# EAGLE library part 44520-0003 (library con-molex)
STACKED MODULAR JACK CATEGORY 5 Source: http://www.molex.com/pdm_docs/sd/445200006_sd.pdf
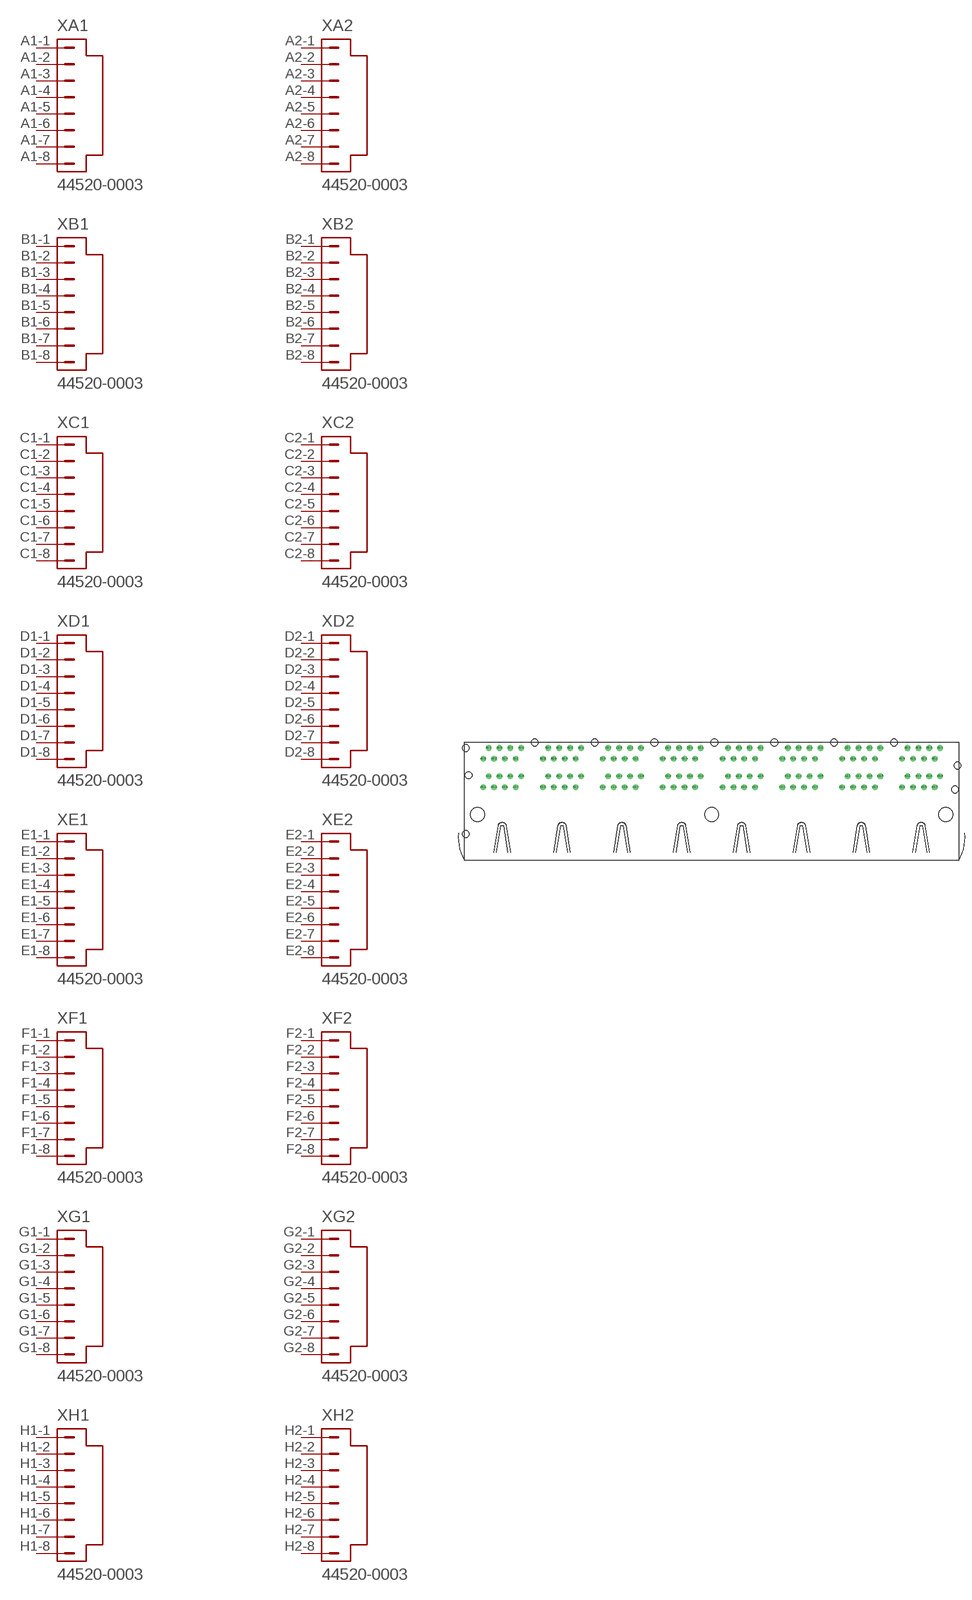
[diagram p163: symbol with the pads of 44520-0003; footprint 44520-0003]

Designator prefix X; gates A1=CON-1X8 A2=CON-1X8 B1=CON-1X8 B2=CON-1X8 C1=CON-1X8 C2=CON-1X8 D1=CON-1X8 D2=CON-1X8 E1=CON-1X8 E2=CON-1X8 F1=CON-1X8 F2=CON-1X8 G1=CON-1X8 G2=CON-1X8 H1=CON-1X8 H2=CON-1X8

## 44520-0003 (MF: MOLEX; MPN: 44520-0003; OC_FARNELL: unknown; OC_NEWARK: 92M2841)  [44520-0003]
A1-1  A1:1  pas
A1-2  A1:2  pas
A1-3  A1:3  pas
A1-4  A1:4  pas
A1-5  A1:5  pas
A1-6  A1:6  pas
A1-7  A1:7  pas
A1-8  A1:8  pas
A2-1  A2:1  pas
A2-2  A2:2  pas
A2-3  A2:3  pas
A2-4  A2:4  pas
A2-5  A2:5  pas
A2-6  A2:6  pas
A2-7  A2:7  pas
A2-8  A2:8  pas
B1-1  B1:1  pas
B1-2  B1:2  pas
B1-3  B1:3  pas
B1-4  B1:4  pas
B1-5  B1:5  pas
B1-6  B1:6  pas
B1-7  B1:7  pas
B1-8  B1:8  pas
B2-1  B2:1  pas
B2-2  B2:2  pas
B2-3  B2:3  pas
B2-4  B2:4  pas
B2-5  B2:5  pas
B2-6  B2:6  pas
B2-7  B2:7  pas
B2-8  B2:8  pas
C1-1  C1:1  pas
C1-2  C1:2  pas
C1-3  C1:3  pas
C1-4  C1:4  pas
C1-5  C1:5  pas
C1-6  C1:6  pas
C1-7  C1:7  pas
C1-8  C1:8  pas
C2-1  C2:1  pas
C2-2  C2:2  pas
C2-3  C2:3  pas
C2-4  C2:4  pas
C2-5  C2:5  pas
C2-6  C2:6  pas
C2-7  C2:7  pas
C2-8  C2:8  pas
D1-1  D1:1  pas
D1-2  D1:2  pas
D1-3  D1:3  pas
D1-4  D1:4  pas
D1-5  D1:5  pas
D1-6  D1:6  pas
D1-7  D1:7  pas
D1-8  D1:8  pas
D2-1  D2:1  pas
D2-2  D2:2  pas
D2-3  D2:3  pas
D2-4  D2:4  pas
D2-5  D2:5  pas
D2-6  D2:6  pas
D2-7  D2:7  pas
D2-8  D2:8  pas
E1-1  E1:1  pas
E1-2  E1:2  pas
E1-3  E1:3  pas
E1-4  E1:4  pas
E1-5  E1:5  pas
E1-6  E1:6  pas
E1-7  E1:7  pas
E1-8  E1:8  pas
E2-1  E2:1  pas
E2-2  E2:2  pas
E2-3  E2:3  pas
E2-4  E2:4  pas
E2-5  E2:5  pas
E2-6  E2:6  pas
E2-7  E2:7  pas
E2-8  E2:8  pas
F1-1  F1:1  pas
F1-2  F1:2  pas
F1-3  F1:3  pas
F1-4  F1:4  pas
F1-5  F1:5  pas
F1-6  F1:6  pas
F1-7  F1:7  pas
F1-8  F1:8  pas
F2-1  F2:1  pas
F2-2  F2:2  pas
F2-3  F2:3  pas
F2-4  F2:4  pas
F2-5  F2:5  pas
F2-6  F2:6  pas
F2-7  F2:7  pas
F2-8  F2:8  pas
G1-1  G1:1  pas
G1-2  G1:2  pas
G1-3  G1:3  pas
G1-4  G1:4  pas
G1-5  G1:5  pas
G1-6  G1:6  pas
G1-7  G1:7  pas
G1-8  G1:8  pas
G2-1  G2:1  pas
G2-2  G2:2  pas
G2-3  G2:3  pas
G2-4  G2:4  pas
G2-5  G2:5  pas
G2-6  G2:6  pas
G2-7  G2:7  pas
G2-8  G2:8  pas
H1-1  H1:1  pas
H1-2  H1:2  pas
H1-3  H1:3  pas
H1-4  H1:4  pas
H1-5  H1:5  pas
H1-6  H1:6  pas
H1-7  H1:7  pas
H1-8  H1:8  pas
H2-1  H2:1  pas
H2-2  H2:2  pas
H2-3  H2:3  pas
H2-4  H2:4  pas
H2-5  H2:5  pas
H2-6  H2:6  pas
H2-7  H2:7  pas
H2-8  H2:8  pas

## Footprint 44520-0003 (pad centres in mm)
STACKED MODULAR JACK CATEGORY 5 Source: http://www.molex.com/pdm_docs/sd/445200006_sd.pdf
drill 0.8: A1-1 -53.34,6.35; A1-2 -52.07,8.89; A1-3 -50.8,6.35; A1-4 -49.53,8.89; A1-5 -48.26,6.35; A1-6 -46.99,8.89; A1-7 -45.72,6.35; A1-8 -44.45,8.89; A2-1 -44.45,15.494; A2-2 -45.72,12.954; A2-3 -46.99,15.494; A2-4 -48.26,12.954; A2-5 -49.53,15.494; A2-6 -50.8,12.954; A2-7 -52.07,15.494; A2-8 -53.34,12.954; B1-1 -39.37,6.35; B1-2 -38.1,8.89; B1-3 -36.83,6.35; B1-4 -35.56,8.89; B1-5 -34.29,6.35; B1-6 -33.02,8.89; B1-7 -31.75,6.35; B1-8 -30.48,8.89; B2-1 -30.48,15.494; B2-2 -31.75,12.954; B2-3 -33.02,15.494; B2-4 -34.29,12.954; B2-5 -35.56,15.494; B2-6 -36.83,12.954; B2-7 -38.1,15.494; B2-8 -39.37,12.954; C1-1 -25.4,6.35; C1-2 -24.13,8.89; C1-3 -22.86,6.35; C1-4 -21.59,8.89; C1-5 -20.32,6.35; C1-6 -19.05,8.89; C1-7 -17.78,6.35; C1-8 -16.51,8.89; C2-1 -16.51,15.494; C2-2 -17.78,12.954; C2-3 -19.05,15.494; C2-4 -20.32,12.954; C2-5 -21.59,15.494; C2-6 -22.86,12.954; C2-7 -24.13,15.494; C2-8 -25.4,12.954; D1-1 -11.43,6.35; D1-2 -10.16,8.89; D1-3 -8.89,6.35; D1-4 -7.62,8.89; D1-5 -6.35,6.35; D1-6 -5.08,8.89; D1-7 -3.81,6.35; D1-8 -2.54,8.89; D2-1 -2.54,15.494; D2-2 -3.81,12.954; D2-3 -5.08,15.494; D2-4 -6.35,12.954; D2-5 -7.62,15.494; D2-6 -8.89,12.954; D2-7 -10.16,15.494; D2-8 -11.43,12.954; E1-1 2.54,6.35; E1-2 3.81,8.89; E1-3 5.08,6.35; E1-4 6.35,8.89; E1-5 7.62,6.35; E1-6 8.89,8.89; E1-7 10.16,6.35; E1-8 11.43,8.89; E2-1 11.43,15.494; E2-2 10.16,12.954; E2-3 8.89,15.494; E2-4 7.62,12.954; E2-5 6.35,15.494; E2-6 5.08,12.954; E2-7 3.81,15.494; E2-8 2.54,12.954; F1-1 16.51,6.35; F1-2 17.78,8.89; F1-3 19.05,6.35; F1-4 20.32,8.89; F1-5 21.59,6.35; F1-6 22.86,8.89; F1-7 24.13,6.35; F1-8 25.4,8.89; F2-1 24.13,12.954; F2-2 25.4,15.494; F2-3 22.86,15.494; F2-4 21.59,12.954; F2-5 20.32,15.494; F2-6 19.05,12.954; F2-7 17.78,15.494; F2-8 16.51,12.954; G1-1 30.48,6.35; G1-2 31.75,8.89; G1-3 33.02,6.35; G1-4 34.29,8.89; G1-5 35.56,6.35; G1-6 36.83,8.89; G1-7 38.1,6.35; G1-8 39.37,8.89; G2-1 39.37,15.494; G2-2 38.1,12.954; G2-3 36.83,15.494; G2-4 35.56,12.954; G2-5 34.29,15.494; G2-6 33.02,12.954; G2-7 31.75,15.494; G2-8 30.48,12.954; H1-1 44.45,6.35; H1-2 45.72,8.89; H1-3 46.99,6.35; H1-4 48.26,8.89; H1-5 49.53,6.35; H1-6 50.8,8.89; H1-7 52.07,6.35; H1-8 53.34,8.89; H2-1 53.34,15.494; H2-2 52.07,12.954; H2-3 50.8,15.494; H2-4 49.53,12.954; H2-5 48.26,15.494; H2-6 46.99,12.954; H2-7 45.72,15.494; H2-8 44.45,12.954
hole 1.575 at -57.404,-4.572
hole 3.251 at 54.61,0
hole 1.575 at -56.769,9.144
hole 1.575 at -57.404,15.494
hole 1.575 at -41.275,16.764
hole 1.575 at -27.305,16.764
hole 1.575 at -13.335,16.764
hole 1.575 at 0.635,16.764
hole 1.575 at 14.605,16.764
hole 1.575 at 28.575,16.764
hole 1.575 at 42.545,16.764
hole 3.251 at 0,0
hole 1.575 at 56.769,5.842
hole 1.575 at 57.404,11.43
hole 3.251 at -54.61,0